# EAGLE library part TEA3718* (library st-microelectronics)
STEPPER MOTOR DRIVER
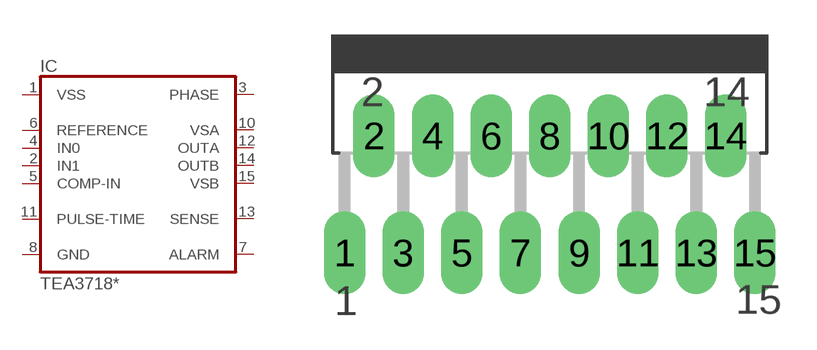
[diagram p17: symbol with the pads of MULTIWATT-15; footprint MULTIWATT-15]

Designator prefix IC

## TEA3718SP (MPN: E-TEA3718SP; OC_FARNELL: unknown; OC_NEWARK: 37M2588)  [MULTIWATT-15]
1  VSS  pwr
2  IN1  in
3  PHASE  in
4  IN0  in
5  COMP-IN  in
6  REFERENCE  in
7  ALARM  oc
8  GND  pwr
10  VSA  pwr
11  PULSE-TIME  pas
12  OUTA  out
13  SENSE  in
14  OUTB  out
15  VSB  pwr

## Footprint MULTIWATT-15 (pad centres in mm)
Multiwatt 15 lead
drill 1.2 long: 1 -8.89,-7.62; 2 -7.62,-2.54; 3 -6.35,-7.62; 4 -5.08,-2.54; 5 -3.81,-7.62; 6 -2.54,-2.54; 7 -1.27,-7.62; 8 0,-2.54; 9 1.27,-7.62; 10 2.54,-2.54; 11 3.81,-7.62; 12 5.08,-2.54; 13 6.35,-7.62; 14 7.62,-2.54; 15 8.89,-7.62